# EAGLE library part BNO055 (library BNO055)
BNO055 A libary to mount the BNO055 Board direct to your pcb using pinheads
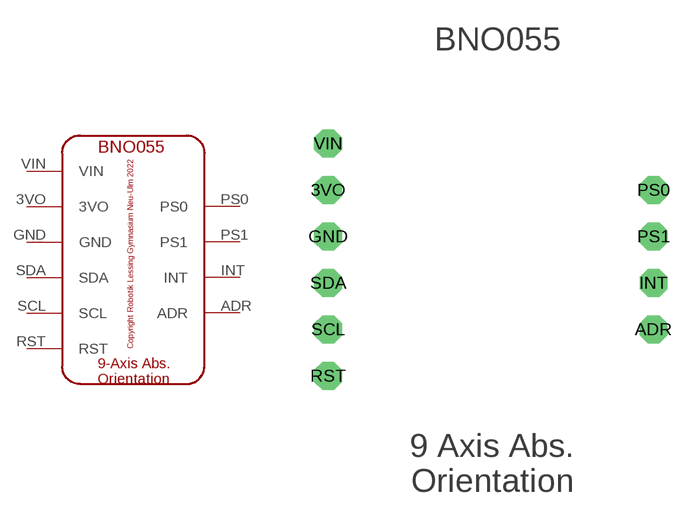
[diagram p0: symbol with the pads of BNO055; footprint BNO055]

Designator prefix -

## BNO055  [BNO055]
3VO  3VO
ADR  ADR
GND  GND
INT  INT
PS0  PS0
PS1  PS1
RST  RST
SCL  SCL
SDA  SDA
VIN  VIN

## Footprint BNO055 (pad centres in mm)
BNO055 A libary to mount the BNO055 Board direct to your pcb using pinheads
drill 1.016 octagon: 3VO -8.99,3.81; ADR 8.79,-3.81; GND -8.99,1.27; INT 8.79,-1.27; PS0 8.79,3.81; PS1 8.79,1.27; RST -8.99,-6.35; SCL -8.99,-3.81; SDA -8.99,-1.27; VIN -8.99,6.35